# EAGLE library part MB3730A (library Audio-Power-amlifier V.2.0)
FUJITSU - 1,4 BTL AUDIO POWER AMPLIEFIER
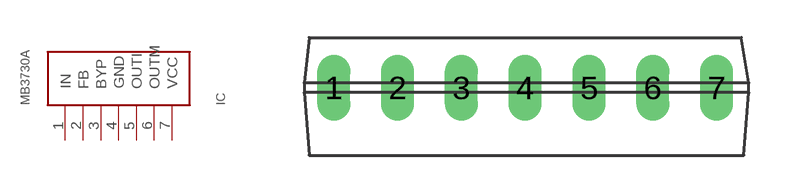
[diagram p96: symbol with the pads of HSIP07-P-M01-2,54; footprint HSIP07-P-M01-2,54]

Designator prefix IC

## MB3730ASIP7  [HSIP07-P-M01-2,54]
1  IN  in
2  FB
3  BYP
4  GND  pwr
5  OUTI  out
6  OUTM  out
7  VCC  pwr

## Footprint HSIP07-P-M01-2,54 (pad centres in mm)
drill 0.8 long: 1 -7.62,0; 2 -5.08,0; 3 -2.54,0; 4 0,0; 5 2.54,0; 6 5.08,0; 7 7.62,0